# Altium footprint library CAP 2220_5650 2.5MM.PCBLIB: 1 footprints
Each footprint in its own frame and in the unit in brackets; x right, y up, seen from the top. Pads: shape width x height; smd on the part's side, far side on the other; paste and mask are expansions set on the pad; w line width, h text height; cw(c..) or ccw(c..) is an arc to the next point about the centre after c.
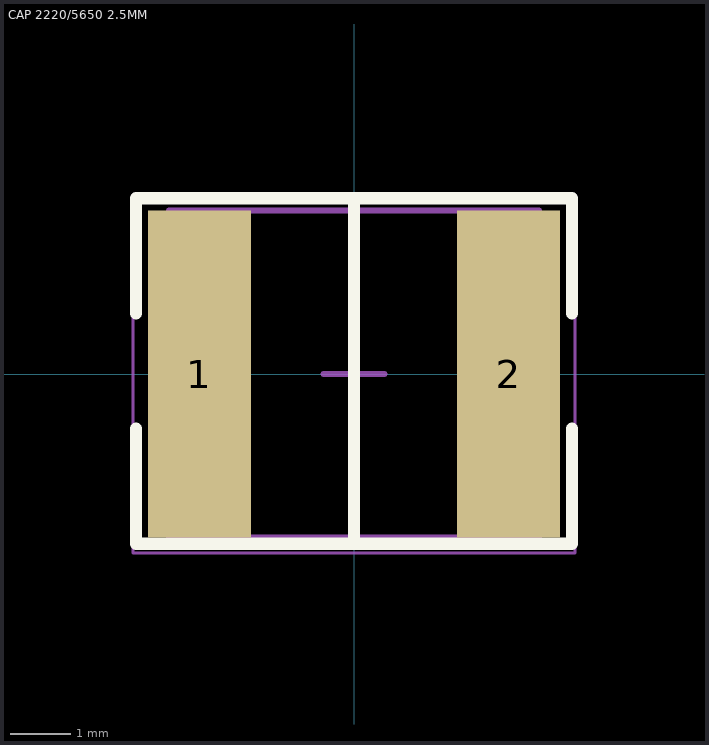
[diagram p0: the footprint, top view; thin cyan lines are the x and y axes]

## CAP 2220/5650 2.5MM [mm] "Chip Capacitor, 2-Leads, Body 5.70x5.00mm, IPC Medium Density"
height 2.5
pads (2):
  rect 1.7x5.4 smd: 1(-2.55,0) 2(2.55,0)
Top Overlay:
  lines w0.2: -3.6,-0.9 -3.6,-2.8 3.6,-2.8 3.6,-0.9 ; -3.6,1 -3.6,2.9 3.6,2.9 3.6,1 ; 0,-2.8 0,2.9
Mechanical 13:
  lines w0.1: -3.05,-2.7 -3.05,2.7 3.05,2.7 3.05,-2.7 -3.05,-2.7
Mechanical 15:
  lines w0.05: -3.65,-2.95 -3.65,2.95 3.65,2.95 3.65,-2.95 -3.65,-2.95
  lines w0.1: -0.5,0 0.5,0 ; 0,-0.5 0,0.5
3D body "CAP 2020-2.5mm.STEP": height 2.5, standoff 0, extent -2.85,-2.5 2.85,2.5